# Altium footprint library Synthiam-roundtrip.PcbLib: 483 footprints (part 31 of 31)
Each footprint in its own frame and in the unit in brackets; x right, y up, seen from the top. Pads: shape width x height; smd on the part's side, far side on the other; paste and mask are expansions set on the pad; w line width, h text height; cw(c..) or ccw(c..) is an arc to the next point about the centre after c.
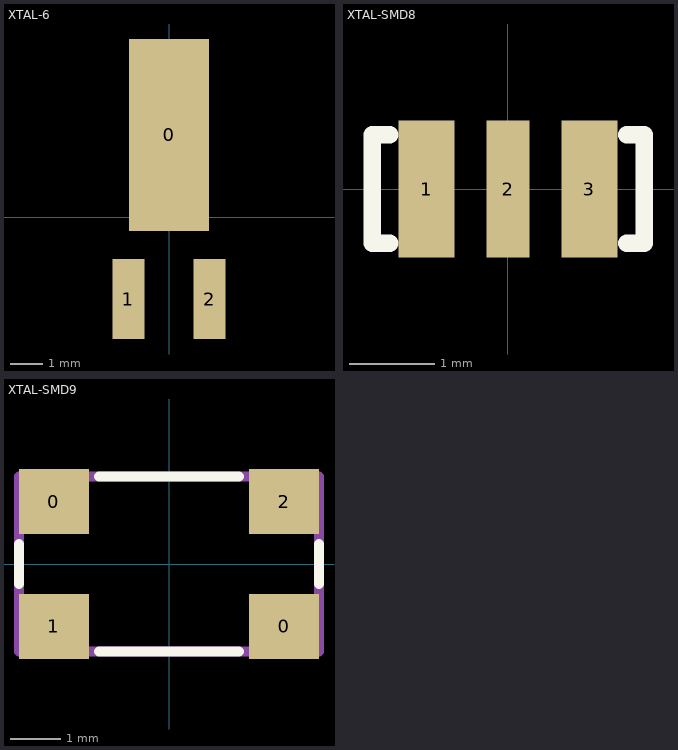
[diagram p30: the footprints below, top view; thin cyan lines are the x and y axes]

## XTAL-6 [mm]
pads (3):
  rect 2.5x6 smd: 0(0,2.563)
  rect 1x2.5 smd: 1(-1.27,-2.562) 2(1.27,-2.562)

## XTAL-SMD8 [mm]
pads (3):
  rect 0.65x1.6 smd: 1(-0.95,0) 3(0.95,0)
  rect 0.5x1.6 smd: 2(0,0)
Top Overlay:
  lines w0.203: -1.382,-0.635 -1.585,-0.635 -1.585,0.635 -1.382,0.635 ; 1.387,-0.635 1.59,-0.635 1.59,0.635 1.387,0.635

## XTAL-SMD9 [mm]
pads (4):
  rect 1.4x1.3 smd: 0(-2.3,1.25) 0(2.3,-1.25) 1(-2.3,-1.25) 2(2.3,1.25)
Top Overlay:
  lines w0.203: -3,-0.4 -3,0.4 ; -1.4,-1.75 1.4,-1.75 ; -1.4,1.75 1.4,1.75 ; 3,-0.4 3,0.4
Mechanical 1:
  lines w0.203: -3,-1.75 3,-1.75 3,1.75 -3,1.75 -3,-1.75